# Altium schematic symbol library interfaces_usb.SchLib: 4 symbols
Pins are listed as number, name and electrical type; pins without a type are passive.

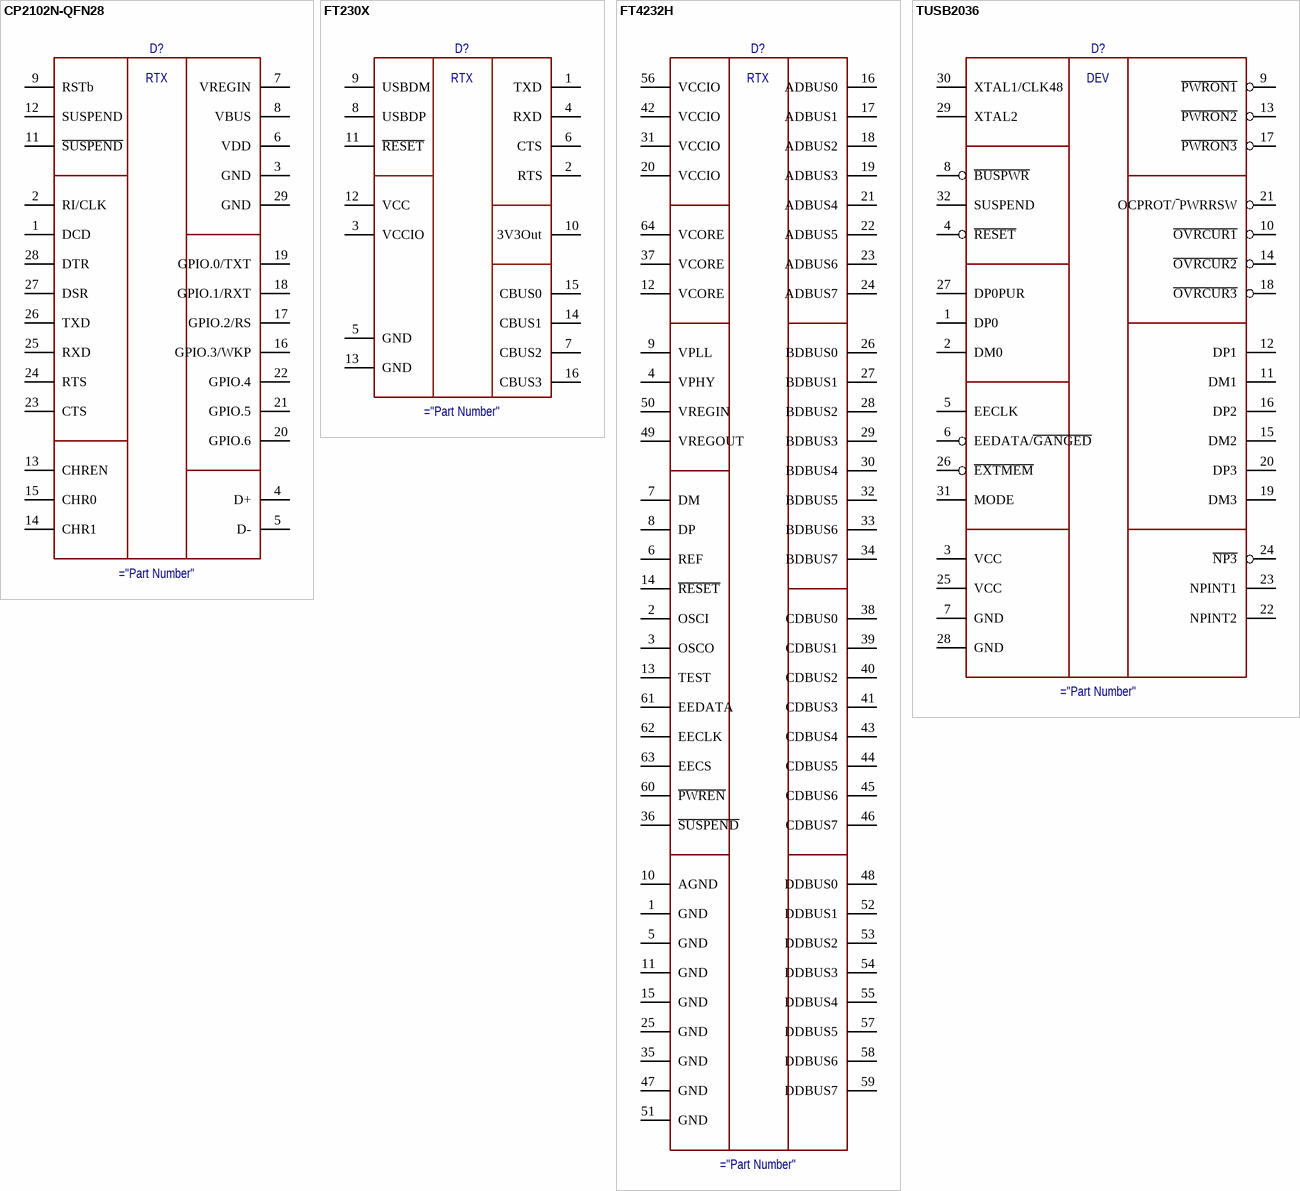
[diagram p0: symbols CP2102N-QFN28 to TUSB2036]

## CP2102N-QFN28
designator D?
USB-UART
pins: 1 DCD, 2 RI/CLK, 3 GND, 4 D+, 5 D-, 6 VDD, 7 VREGIN, 8 VBUS, 9 RSTb, 10 NC hidden, 11 ~{SUSPEND}, 12 SUSPEND, 13 CHREN, 14 CHR1, 15 CHR0, 16 GPIO.3/WKP, 17 GPIO.2/RS, 18 GPIO.1/RXT, 19 GPIO.0/TXT, 20 GPIO.6, 21 GPIO.5, 22 GPIO.4, 23 CTS, 24 RTS, 25 RXD, 26 TXD, 27 DSR, 28 DTR, 29 GND
text: RTX

## FT230X
designator D?
FTDI USB-UART
pins: 1 TXD, 2 RTS, 3 VCCIO, 4 RXD, 5 GND, 6 CTS, 7 CBUS2, 8 USBDP, 9 USBDM, 10 3V3Out, 11 ~{RESET}, 12 VCC, 13 GND, 14 CBUS1, 15 CBUS0, 16 CBUS3
text: RTX

## FT4232H
designator D?
USB-UART/MPSSE
pins: 1 GND, 2 OSCI, 3 OSCO, 4 VPHY, 5 GND, 6 REF, 7 DM, 8 DP, 9 VPLL, 10 AGND, 11 GND, 12 VCORE, 13 TEST, 14 ~{RESET}, 15 GND, 16 ADBUS0, 17 ADBUS1, 18 ADBUS2, 19 ADBUS3, 20 VCCIO, 21 ADBUS4, 22 ADBUS5, 23 ADBUS6, 24 ADBUS7, 25 GND, 26 BDBUS0, 27 BDBUS1, 28 BDBUS2, 29 BDBUS3, 30 BDBUS4, 31 VCCIO, 32 BDBUS5, 33 BDBUS6, 34 BDBUS7, 35 GND, 36 ~{SUSPEND}, 37 VCORE, 38 CDBUS0, 39 CDBUS1, 40 CDBUS2, 41 CDBUS3, 42 VCCIO, 43 CDBUS4, 44 CDBUS5, 45 CDBUS6, 46 CDBUS7, 47 GND, 48 DDBUS0, 49 VREGOUT, 50 VREGIN, 51 GND, 52 DDBUS1, 53 DDBUS2, 54 DDBUS3, 55 DDBUS4, 56 VCCIO, 57 DDBUS5, 58 DDBUS6, 59 DDBUS7, 60 ~{PWREN}, 61 EEDATA, 62 EECLK, 63 EECS, 64 VCORE
text: RTX

## TUSB2036
designator D?
USB Hub
pins: 1 DP0, 2 DM0, 3 VCC, 4 ~{RESET}, 5 EECLK, 6 EEDATA/~{GANGED}, 7 GND, 8 ~{BUSPWR}, 9 ~{PWRON1}, 10 ~{OVRCUR1}, 11 DM1, 12 DP1, 13 ~{PWRON2}, 14 ~{OVRCUR2}, 15 DM2, 16 DP2, 17 ~{PWRON3}, 18 ~{OVRCUR3}, 19 DM3, 20 DP3, 21 OCPROT/~{ }PWRRSW, 22 NPINT2, 23 NPINT1, 24 ~{NP3}, 25 VCC, 26 ~{EXTMEM}, 27 DP0PUR, 28 GND, 29 XTAL2, 30 XTAL1/CLK48, 31 MODE, 32 SUSPEND
text: DEV